# EAGLE library part F32R-1A7H1-11040 (library F32R-1A7H1-11040)
FFC & FPC Connectors F32R-1A7H1-11040-Slider type Source: Datasheet <https://www.amphenol-icc.com/media/wysiwyg/files/documentation/datasheet/flex/ffc_fpc_050mm_f32r_f32q.pdf?__cf_chl_jschl_tk__=3f8f457df8d9f1b20a5b96c6726c259c8be1ce98-1619065013-0-AaW0kb0KQGEq_oHMA2XTFNl_vLi6zRgloyGJP8x-et_CNrU4YAnBmhGxtOwLCBLKfJ3m7u1QhbU>
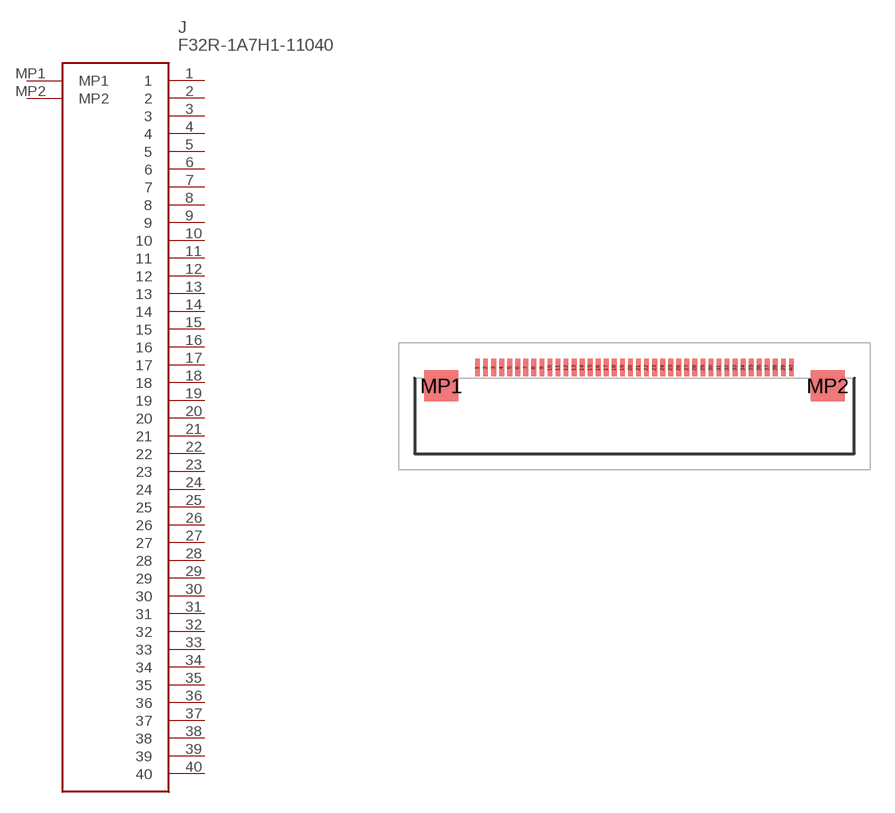
[diagram p0: symbol with the pads of F32R1A7H111040; footprint F32R1A7H111040]

Designator prefix J

## F32R-1A7H1-11040 (DESCRIPTION: FFC & FPC Connectors F32R-1A7H1-11040-Slider type; HEIGHT: 2.8mm; MANUFACTURER_NAME: Amphenol ICC / Aorora; MANUFACTURER_PART_NUMBER: F32R-1A7H1-11040; MOUSER_PART_NUMBER: 649-F32R-1A7H1-11040; MOUSER_PRICE-STOCK: https://www.mouser.co.uk/ProductDetail/Amphenol-ICC-Aorora/F32R-1A7H1-11040?qs=xZ%2FP%252Ba9zWqZi2ltQqa0C7A%3D%3D)  [F32R1A7H111040]
1  1
2  2
3  3
4  4
5  5
6  6
7  7
8  8
9  9
10  10
11  11
12  12
13  13
14  14
15  15
16  16
17  17
18  18
19  19
20  20
21  21
22  22
23  23
24  24
25  25
26  26
27  27
28  28
29  29
30  30
31  31
32  32
33  33
34  34
35  35
36  36
37  37
38  38
39  39
40  40
MP1  MP1
MP2  MP2

## Footprint F32R1A7H111040 (pad centres in mm)
F32R-1A7H1-11040-2
smd 0.3 x 1.1: 1 -9.75,3; 2 -9.25,3; 3 -8.75,3; 4 -8.25,3; 5 -7.75,3; 6 -7.25,3; 7 -6.75,3; 8 -6.25,3; 9 -5.75,3; 10 -5.25,3; 11 -4.75,3; 12 -4.25,3; 13 -3.75,3; 14 -3.25,3; 15 -2.75,3; 16 -2.25,3; 17 -1.75,3; 18 -1.25,3; 19 -0.75,3; 20 -0.25,3; 21 0.25,3; 22 0.75,3; 23 1.25,3; 24 1.75,3; 25 2.25,3; 26 2.75,3; 27 3.25,3; 28 3.75,3; 29 4.25,3; 30 4.75,3; 31 5.25,3; 32 5.75,3; 33 6.25,3; 34 6.75,3; 35 7.25,3; 36 7.75,3; 37 8.25,3; 38 8.75,3; 39 9.25,3; 40 9.75,3
smd 2.1 x 1.95: MP1 -12,1.875; MP2 12,1.875